# Altium footprint library DPI_LVDS.PcbLib: 15 footprints
Each footprint in its own frame and in the unit in brackets; x right, y up, seen from the top. Pads: shape width x height; smd on the part's side, far side on the other; paste and mask are expansions set on the pad; w line width, h text height; cw(c..) or ccw(c..) is an arc to the next point about the centre after c.
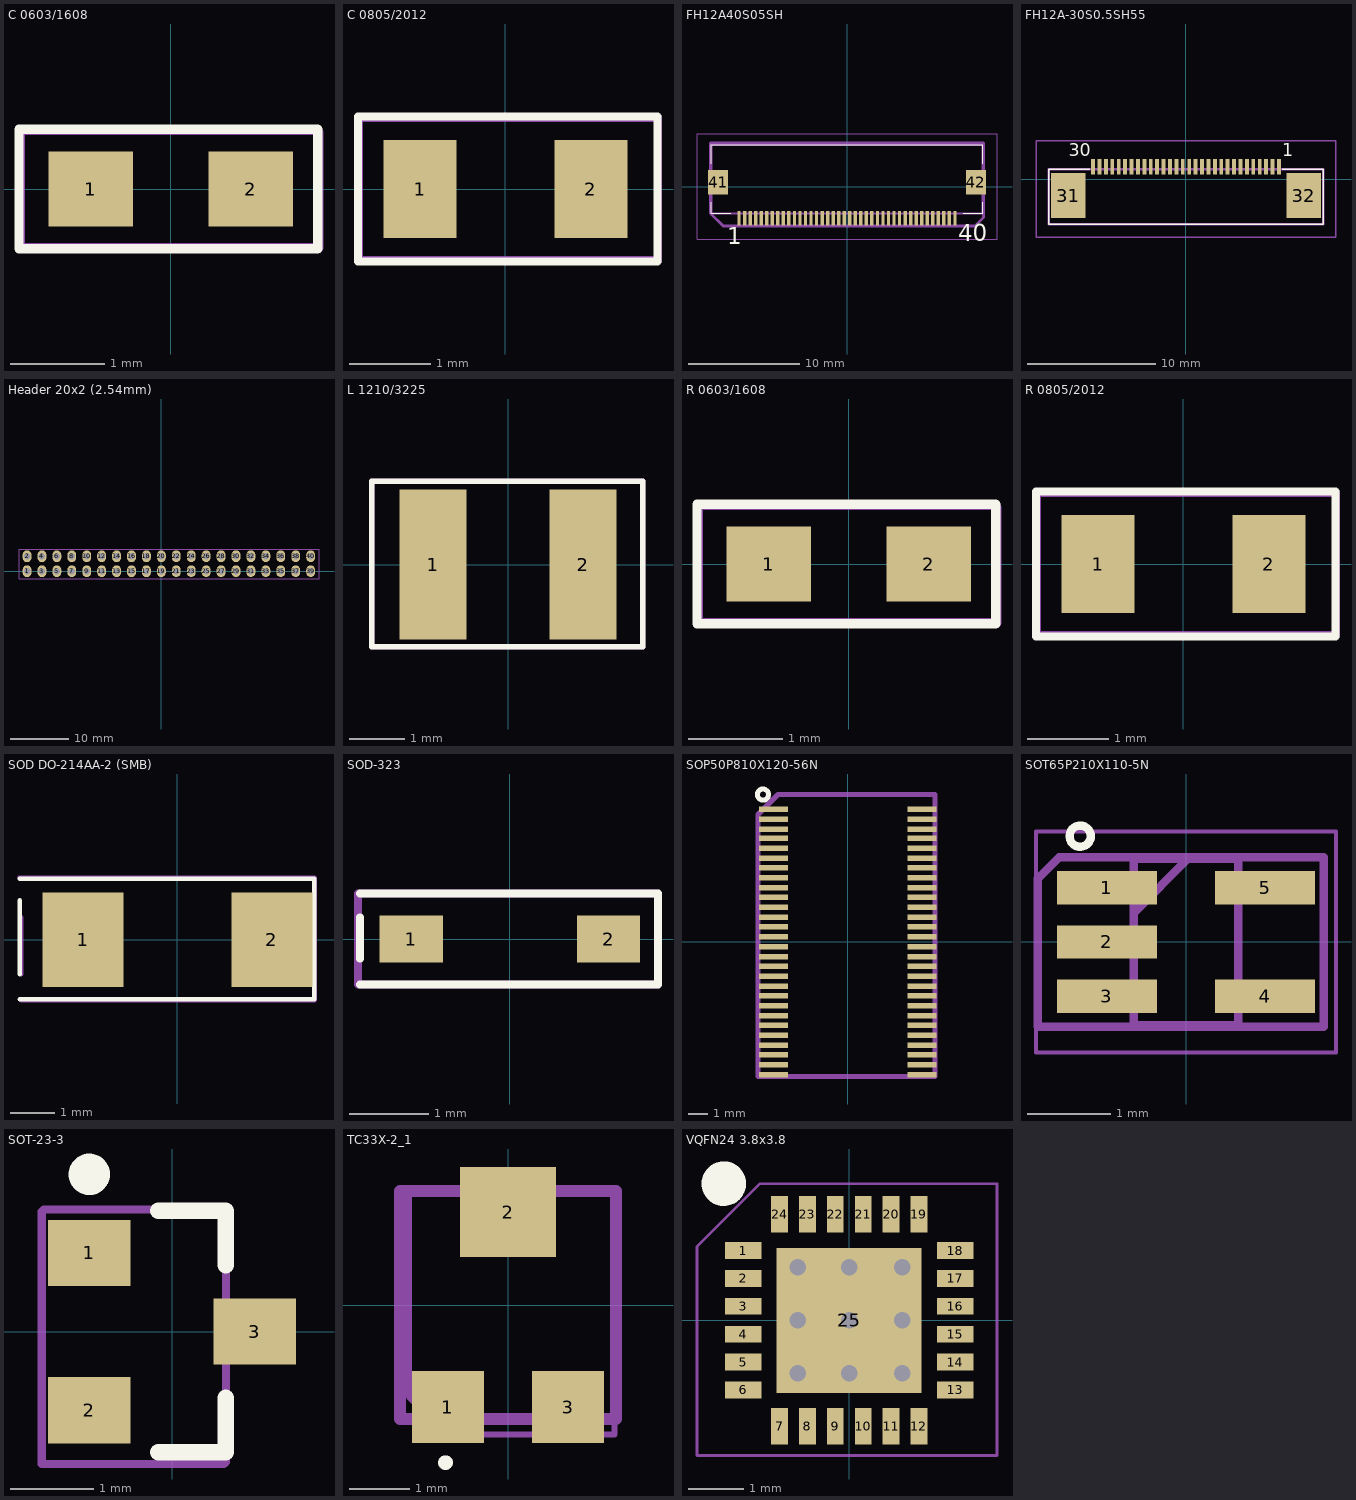
[diagram p0: the footprints below, top view; thin cyan lines are the x and y axes]

## C 0603/1608 [mm]
pads (2):
  rect 0.9x0.8 smd: 1(-0.85,0) 2(0.85,0)
Top Overlay:
  lines w0.1: -1.612,-0.635 1.563,-0.635 1.563,0.635 -1.612,0.635 -1.612,-0.635
Mechanical 29 (Mech29):
  lines w0.1: -1.6,-0.625 1.575,-0.625 1.575,0.6 1.55,0.625 -1.6,0.625 -1.6,-0.625
  text ".Designator" at -1.4,-0.4 h0.8
3D body: height 0.64, standoff 0, extent 0.85,-0.4 1.3,0.4
3D body: height 0.64, standoff 0, extent -1.3,-0.4 -0.85,0.4
3D body: height 0.64, standoff 0, extent -0.85,-0.4 0.85,0.4

## C 0805/2012 [mm]
pads (2):
  rect 0.9x1.2 smd: 1(-1.05,0) 2(1.05,0)
Top Overlay:
  lines w0.1: -1.812,-0.889 -1.812,0.889 1.871,0.889 1.871,-0.889 -1.812,-0.889
Mechanical 29 (Mech29):
  lines w0.1: -1.8,-0.875 -1.8,0.85 -1.775,0.875 1.875,0.875 1.875,-0.875 -1.8,-0.875
  text ".Designator" at -1.675,-0.55 h1
3D body: height 0.64, standoff 0, extent 1.1,-0.6 1.5,0.6
3D body: height 0.64, standoff 0, extent -1.5,-0.6 -1.05,0.6
3D body: height 0.64, standoff 0, extent -1.05,-0.6 1.1,0.6

## FH12A40S05SH [mm]
pads (42):
  rect 0.3x1.3 smd: 1(-9.75,-2.871) 2(-9.25,-2.871) 3(-8.75,-2.871) 4(-8.25,-2.871) 5(-7.75,-2.871) 6(-7.25,-2.871) 7(-6.75,-2.871) 8(-6.25,-2.871) 9(-5.75,-2.871) 10(-5.25,-2.871) 11(-4.75,-2.871) 12(-4.25,-2.871) 13(-3.75,-2.871) 14(-3.25,-2.871) 15(-2.75,-2.871) 16(-2.25,-2.871) 17(-1.75,-2.871) 18(-1.25,-2.871) 19(-0.75,-2.871) 20(-0.25,-2.871) 21(0.25,-2.871) 22(0.75,-2.871) 23(1.25,-2.871) 24(1.75,-2.871) 25(2.25,-2.871) 26(2.75,-2.871) 27(3.25,-2.871) 28(3.75,-2.871) 29(4.25,-2.871) 30(4.75,-2.871) 31(5.25,-2.871) 32(5.75,-2.871) 33(6.25,-2.871) 34(6.75,-2.871) 35(7.25,-2.871) 36(7.75,-2.871) 37(8.25,-2.871) 38(8.75,-2.871) 39(9.25,-2.871) 40(9.75,-2.871)
  rect 1.8x2.2 smd: 41(-11.65,0.379) 42(11.65,0.379)
Top Overlay:
  lines w0.1: -12.25,-1.425 -12.25,-2.425 -10.5,-2.425 ; -12.25,2.075 -12.25,3.775 12.25,3.775 12.25,2.075 ; 10.5,-2.425 12.25,-2.425 12.25,-1.425
  text "40" at 10.033,-4.953 h1.52
  text "1" at -10.795,-5.207 h1.52
Mechanical 13:
  lines w0.2: -12.25,-2.425 12.25,-2.425 12.25,3.775 -12.25,3.775 -12.25,-2.425
Mechanical 15:
  lines w0.1: -13.55,-4.775 13.55,-4.775 13.55,4.775 -13.55,4.775 -13.55,-4.775
Mechanical 29 (Mech29):
  lines w0.254: -12.319,-2.413 -12.319,3.937 12.319,3.937 12.319,-2.794 11.557,-3.556 -11.176,-3.556 -12.319,-2.413
  text ".Designator" at -5.969,0.762 h1.52
3D body "FH12A-40S-0.5SH.stp": height 1.95, standoff -0.2, extent -12.25,-3.175 12.25,3.825

## FH12A-30S0.5SH55 [mm]
pads (32):
  rect 0.3x1.2 smd: 1(7.25,0.97) 2(6.75,0.97) 3(6.25,0.97) 4(5.75,0.97) 5(5.25,0.97) 6(4.75,0.97) 7(4.25,0.97) 8(3.75,0.97) 9(3.25,0.97) 10(2.75,0.97) 11(2.25,0.97) 12(1.75,0.97) 13(1.25,0.97) 14(0.75,0.97) 15(0.25,0.97) 16(-0.25,0.97) 17(-0.75,0.97) 18(-1.25,0.97) 19(-1.75,0.97) 20(-2.25,0.97) 21(-2.75,0.97) 22(-3.25,0.97) 23(-3.75,0.97) 24(-4.25,0.97) 25(-4.75,0.97) 26(-5.25,0.97) 27(-5.75,0.97) 28(-6.25,0.97) 29(-6.75,0.97) 30(-7.25,0.97)
  rect 2.7x3.5 smd: 31(-9.18,-1.3) 32(9.18,-1.3)
Top Overlay:
  lines w0.1: -7.5,0.77 -10.7,0.77 -10.7,-3.53 10.7,-3.53 10.7,0.77 7.5,0.77
  text "30" at -9.144,1.76 h1
  text "1" at 7.5,1.76 h1
Mechanical 13:
  lines w0.2: -10.7,-3.53 10.7,-3.53 10.7,0.77 -10.7,0.77 -10.7,-3.53
Mechanical 15:
  lines w0.1: -11.7,-4.53 11.7,-4.53 11.7,2.97 -11.7,2.97 -11.7,-4.53
Mechanical 29 (Mech29):
  text ".Designator" at -3.556,-2.304 h1
3D body "FH12A-30S-0.5SH.stp": height 2.15, standoff 0, extent -9.75,-5.857 9.75,1.143

## Header 20x2 (2.54mm) [mm]
pads (40):
  oval 1.5x2 hole 1.1: 1(-22.86,0) 2(-22.86,2.54) 3(-20.32,0) 4(-20.32,2.54) 5(-17.78,0) 6(-17.78,2.54) 7(-15.24,0) 8(-15.24,2.54) 9(-12.7,0) 10(-12.7,2.54) 11(-10.16,0) 12(-10.16,2.54) 13(-7.62,0) 14(-7.62,2.54) 15(-5.08,0) 16(-5.08,2.54) 17(-2.54,0) 18(-2.54,2.54) 19(0,0) 20(0,2.54) 21(2.54,0.01) 22(2.54,2.55) 23(5.08,0.01) 24(5.08,2.55) 25(7.62,0.01) 26(7.62,2.55) 27(10.16,0.01) 28(10.16,2.55) 29(12.7,0.01) 30(12.7,2.55) 31(15.24,0.01) 32(15.24,2.55) 33(17.78,0.01) 34(17.78,2.55) 35(20.32,0.01) 36(20.32,2.55) 37(22.86,0.01) 38(22.86,2.55) 39(25.4,0.01) 40(25.4,2.55)
Mechanical 29 (Mech29):
  lines w0.1: -24.225,-1.25 -24.225,3.7 26.825,3.7 26.825,-1.25 -24.225,-1.25 ; -24.225,-1.25 -24.225,-1.25
  text ".Designator" at -14.66,1.275 h1
3D body "SLW-120-01-G-D.stp": height 1.22, standoff -6.27, extent -24.257,-1.27 26.543,3.683

## L 1210/3225 [mm]
pads (2):
  rect 1.2x2.7 smd: 1(-1.35,0) 2(1.35,0)
Top Overlay:
  lines w0.1: -2.45,-1.475 -2.45,1.5 2.425,1.5 2.425,-1.475 -2.45,-1.475
Mechanical 29 (Mech29):
  lines w0.1: -2.45,-1.475 -2.45,1.5 2.425,1.5 2.425,-1.475 -2.45,-1.475
  text ".Designator" at -2.175,-0.9 h1
3D body "User Library-INDM3225X240N.step": height 2.4, standoff 0, extent -1.79,-1.35 1.79,1.35

## R 0603/1608 [mm]
pads (2):
  rect 0.9x0.8 smd: 1(-0.85,0) 2(0.85,0)
Top Overlay:
  lines w0.1: -1.612,-0.635 1.563,-0.635 1.563,0.635 -1.612,0.635 -1.612,-0.635
Mechanical 29 (Mech29):
  lines w0.1: -1.6,-0.625 1.575,-0.625 1.575,0.6 1.55,0.625 -1.6,0.625 -1.6,-0.625
  text ".Designator" at -1.425,-0.4 h0.8
3D body: height 0.64, standoff 0, extent 0.85,-0.4 1.3,0.4
3D body: height 0.64, standoff 0, extent -1.3,-0.4 -0.85,0.4
3D body: height 0.64, standoff 0, extent -0.85,-0.4 0.85,0.4

## R 0805/2012 [mm]
pads (2):
  rect 0.9x1.2 smd: 1(-1.05,0) 2(1.05,0)
Top Overlay:
  lines w0.1: -1.812,-0.889 -1.812,0.889 1.871,0.889 1.871,-0.889 -1.812,-0.889
Mechanical 29 (Mech29):
  lines w0.1: -1.8,-0.875 -1.8,0.85 -1.775,0.875 1.875,0.875 1.875,-0.875 -1.8,-0.875
  text ".Designator" at -1.65,-0.55 h1
3D body: height 0.64, standoff 0, extent 1.1,-0.6 1.5,0.6
3D body: height 0.64, standoff 0, extent -1.5,-0.6 -1.05,0.6
3D body: height 0.64, standoff 0, extent -1.05,-0.6 1.1,0.6

## SOD DO-214AA-2 (SMB) [mm]
pads (2):
  rect 1.8x2.1 smd: 1(-2.1,0) 2(2.1,0)
Top Overlay:
  lines w0.1: -3.505,-1.325 3.045,-1.325 3.045,1.35 -3.505,1.35 ; -3.505,-0.775 -3.505,0.875
Mechanical 29 (Mech29):
  lines w0.1: -3.525,1.375 3.05,1.375 3.05,-1.35 -3.475,-1.35 ; -3.475,-0.775 -3.475,0.5
  text ".Designator" at -0.525,-0.25 h1
3D body "DO-214AA SMB.step": height 2.35, standoff 0.05, extent -2.7,-1.8 2.7,1.8

## SOD-323 [mm]
pads (2):
  rect 0.8x0.6 smd: 1(-1.25,0) 2(1.25,0)
Top Overlay:
  lines w0.1: -1.9,-0.575 1.875,-0.575 1.875,0.575 -1.9,0.575 ; -1.9,-0.25 -1.9,0.275
Mechanical 29 (Mech29):
  lines w0.1: 1.875,0.575 1.875,-0.575 0.75,-0.575 -1.925,-0.575 -1.925,0.575 1.875,0.575 ; 1.875,0.575 1.875,0.575
  text ".Designator" at -1.6,-0.4 h1
3D body "SOD323.step": height 0.9, standoff -0.09, extent -1.225,-0.625 1.275,0.625

## SOP50P810X120-56N [mil]
pads (56):
  rect 58x11 smd: 1(-149,266) 2(-149,246) 3(-149,226) 4(-149,207) 5(-149,187) 6(-149,167) 7(-149,148) 8(-149,128) 9(-149,108) 10(-149,89) 11(-149,69) 12(-149,49) 13(-149,30) 14(-149,10) 15(-149,-10) 16(-149,-30) 17(-149,-49) 18(-149,-69) 19(-149,-89) 20(-149,-108) 21(-149,-128) 22(-149,-148) 23(-149,-167) 24(-149,-187) 25(-149,-207) 26(-149,-226) 27(-149,-246) 28(-149,-266) 29(149,-266) 30(149,-246) 31(149,-226) 32(149,-207) 33(149,-187) 34(149,-167) 35(149,-148) 36(149,-128) 37(149,-108) 38(149,-89) 39(149,-69) 40(149,-49) 41(149,-30) 42(149,-10) 43(149,10) 44(149,30) 45(149,49) 46(149,69) 47(149,89) 48(149,108) 49(149,128) 50(149,148) 51(149,167) 52(149,187) 53(149,207) 54(149,226) 55(149,246) 56(149,266)
Top Overlay:
  circle w10: c-170,295 r11.18
Mechanical 29 (Mech29):
  lines w10: -180,-270 175,-270 175,295 -125,295 -140,295 -180,255 -180,-270
  text ".Designator" at -65,-5 h60
3D body "User Library-TSSOP-56.STEP": height 45, standoff -15.9, extent -160.66,-277.17 160,277.18

## SOT65P210X110-5N [mm]
pads (5):
  rect 1.2x0.4 smd: 1(-0.95,0.65) 2(-0.95,0) 3(-0.95,-0.65) 4(0.95,-0.65) 5(0.95,0.65)
Top Overlay:
  circle w0.1: c-1.27,1.27 r0.127
Mechanical 13:
  lines w0.1: -0.625,0.35 0.025,1 ; -0.625,-1 -0.625,1 0.625,1 0.625,-1 -0.625,-1
Mechanical 15:
  lines w0.05: -1.8,-1.325 -1.8,1.325 1.8,1.325 1.8,-1.325 -1.8,-1.325
Mechanical 29 (Mech29):
  lines w0.1: -1.778,-1.016 1.651,-1.016 1.651,1.016 -1.524,1.016 -1.778,0.762 -1.778,-1.016
  text ".Designator" at -1.524,-0.508 h1
3D body "TPS61169DCKR.stp": height 1.1, standoff 0, extent -1.05,-1 1.05,1

## SOT-23-3 [mm] "SOT23, 3-Leads, Body 2.92x1.3mm, Pitch 0.95mm"
height 1.11
pads (3):
  rect 1x0.8 smd: 1(-1,0.95) 2(-1,-0.95) 3(1,0)
Top Overlay:
  circle w0.25: c-1,1.9 r0.125
  lines w0.2: -0.165,-1.46 0.65,-1.46 0.65,-0.8 ; -0.165,1.46 0.65,1.46 0.65,0.8
Mechanical 29 (Mech29):
  lines w0.1: -1.575,-1.6 0.625,-1.6 0.65,-1.575 0.65,1.475 -1.55,1.475 -1.575,1.45 -1.575,-1.6
  text ".Designator" at -0.8,1.125 h1
3D body "SOT23-3.step": height 1.3, standoff 0, extent -1.4,-1.45 1.4,1.45

## TC33X-2_1 [mm]
pads (3):
  rect 1.2x1.2 smd: 1(-1,-1.7) 3(1,-1.7)
  rect 1.6x1.5 smd: 2(0,1.55)
Top Overlay:
  circle w0.2: c-1.041,-2.625 r0.022
Mechanical 13:
  lines w0.2: -1.8,-1.9 1.8,-1.9 1.8,1.9 -1.8,1.9 -1.8,-1.9
Mechanical 29 (Mech29):
  lines w0.1: -1.651,-1.524 -1.016,-2.159 1.778,-2.159 1.778,1.905 -1.651,1.905 -1.651,-1.524
  text ".Designator" at -0.635,-0.635 h1
3D body "User Library-TC-33X-2.step": height 1.13, standoff -0.02, extent -1.8,-2.032 1.8,1.931

## VQFN24 3.8x3.8 [mm]
pads (25):
  rect 0.65x0.3 smd: 1(-1.9,1.25) 2(-1.9,0.75) 3(-1.9,0.25) 4(-1.9,-0.25) 5(-1.9,-0.75) 6(-1.9,-1.25) 13(1.9,-1.25) 14(1.9,-0.75) 15(1.9,-0.25) 16(1.9,0.25) 17(1.9,0.75) 18(1.9,1.25)
  rect 0.3x0.65 smd: 7(-1.25,-1.9) 8(-0.75,-1.9) 9(-0.25,-1.9) 10(0.25,-1.9) 11(0.75,-1.9) 12(1.25,-1.9) 19(1.25,1.9) 20(0.75,1.9) 21(0.25,1.9) 22(-0.25,1.9) 23(-0.75,1.9) 24(-1.25,1.9)
  rect 2.6x2.6 smd: 25(0,0)
via 0,-0.95 diameter 0.5 hole 0.3
via 0,0.95 diameter 0.5 hole 0.3
via 0.95,0 diameter 0.5 hole 0.3
via -0.925,0 diameter 0.5 hole 0.3
via 0,0 diameter 0.5 hole 0.3
via 0.95,0.95 diameter 0.5 hole 0.3
via 0.95,-0.95 diameter 0.5 hole 0.3
via -0.925,-0.95 diameter 0.5 hole 0.3
via -0.925,0.95 diameter 0.5 hole 0.3
Top Overlay:
  circle w0.4: c-2.25,2.45 r0.2
Mechanical 29 (Mech29):
  lines w0.05: -2.73,-2.425 2.65,-2.425 2.65,2.45 -1.6,2.45 -2.73,1.32 -2.73,-2.425
  text ".Designator" at -0.475,0.55 h1
3D body "User Library-QFN 24 4x4.step": height 0.9, standoff 0, extent -2.004,-2.002 2,2.002